# EAGLE library part BH-8SG (library connectors)
ic Source: Datasheet <http://akizukidenshi.com/download/ds/useconn/BH-XXSG.pdf>
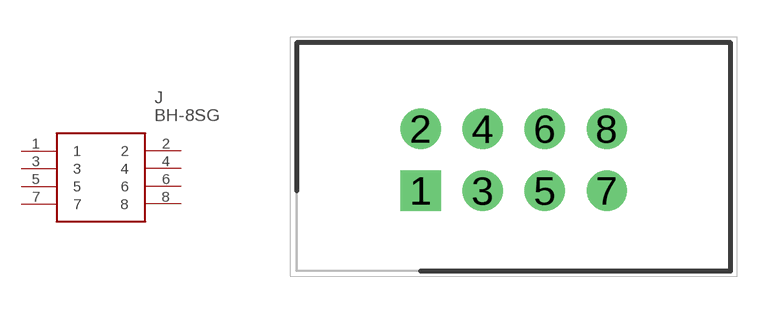
[diagram p1: symbol with the pads of SHDR8P254_2X4; footprint SHDR8P254_2X4]

Designator prefix J

## BH-8SG  [SHDR8P254_2X4]
1  1
2  2
3  3
4  4
5  5
6  6
7  7
8  8

## Footprint SHDR8P254_2X4 (pad centres in mm)
BH-8SG
drill 1.1 pad 1.65 square: 1 0,0
drill 1.1 pad 1.65: 2 0,2.54; 3 2.54,0; 4 2.54,2.54; 5 5.08,0; 6 5.08,2.54; 7 7.62,0; 8 7.62,2.54